# Altium footprint library CURRENT_SENS_Case.PcbLib: 1 footprints
Each footprint in its own frame and in the unit in brackets; x right, y up, seen from the top. Pads: shape width x height; smd on the part's side, far side on the other; paste and mask are expansions set on the pad; w line width, h text height; cw(c..) or ccw(c..) is an arc to the next point about the centre after c.
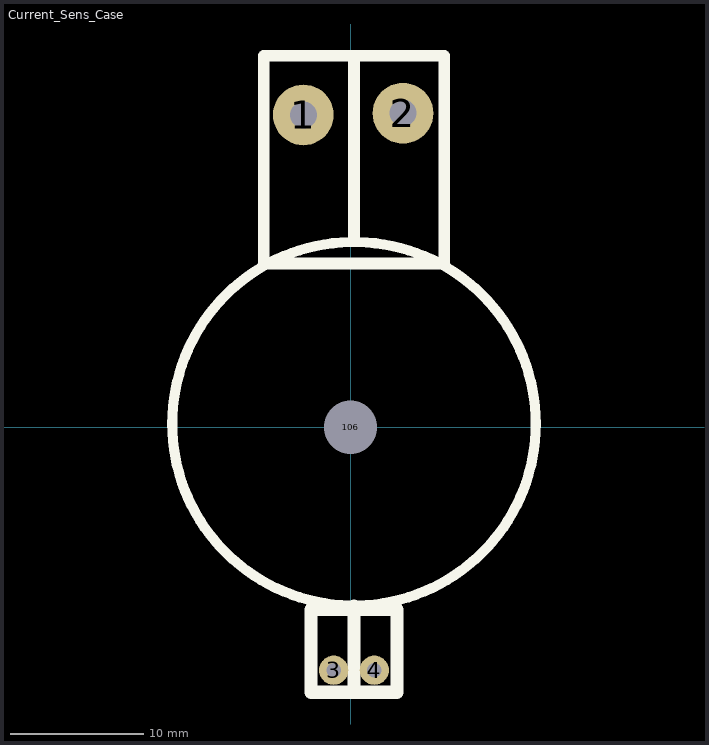
[diagram p0: the footprint, top view; thin cyan lines are the x and y axes]

## Current_Sens_Case [mil]
pads (5):
  round 180 hole 80: 1(-140,925) 2(155,930)
  round 86.61 hole 43.31: 3(-50,-720) 4(70,-720)
  round 60 hole 157.48: 106(0,0)
Top Overlay:
  circle w30: c10,10 r538.52
  lines w35: 10,562.5 10,1100 ; -257.5,485 277.5,485 277.5,1100 -257.5,1100 -257.5,485
  lines w39.37: 10,-785 10,-530 ; -117.5,-785 137.5,-785 137.5,-540 -117.5,-540 -117.5,-785
Top Paste:
  circle w100: c0,0 r129.92
Bottom Paste:
  circle w100: c0,0 r129.92
3D body "Измеритель тока.STEP": height 750.49, standoff -264.78, extent -688.98,-741.62 688.98,962.58
3D body "Измеритель тока.STEP": height 264.78, standoff -565.75, extent -544.09,-741.62 544.09,962.58